# EAGLE library part 204-214 (library switch-dil)
DPST DIP SWITCH
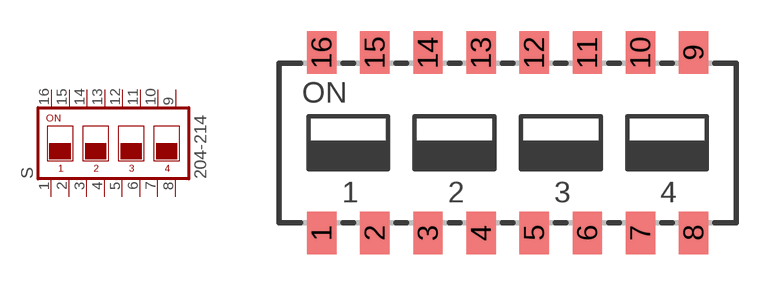
[diagram p76: symbol with the pads of 204-214; footprint 204-214]

Designator prefix S

## 204-214  [204-214]
1  1  pas
2  2  pas
3  3  pas
4  4  pas
5  5  pas
6  6  pas
7  7  pas
8  8  pas
9  9  pas
10  10  pas
11  11  pas
12  12  pas
13  13  pas
14  14  pas
15  15  pas
16  16  pas

## Footprint 204-214 (pad centres in mm)
DPST DIP SWITCH CTS Electrocomponents
smd 1.397 x 2.032: 1 -8.89,-4.305; 2 -6.35,-4.305; 3 -3.81,-4.305; 4 -1.27,-4.305; 5 1.27,-4.305; 6 3.81,-4.305; 7 6.35,-4.305; 8 8.89,-4.305; 9 8.89,4.305; 10 6.35,4.305; 11 3.81,4.305; 12 1.27,4.305; 13 -1.27,4.305; 14 -3.81,4.305; 15 -6.35,4.305; 16 -8.89,4.305